# Altium footprint library INFINITY.Diod.PcbLib: 8 footprints
Each footprint in its own frame and in the unit in brackets; x right, y up, seen from the top. Pads: shape width x height; smd on the part's side, far side on the other; paste and mask are expansions set on the pad; w line width, h text height; cw(c..) or ccw(c..) is an arc to the next point about the centre after c.
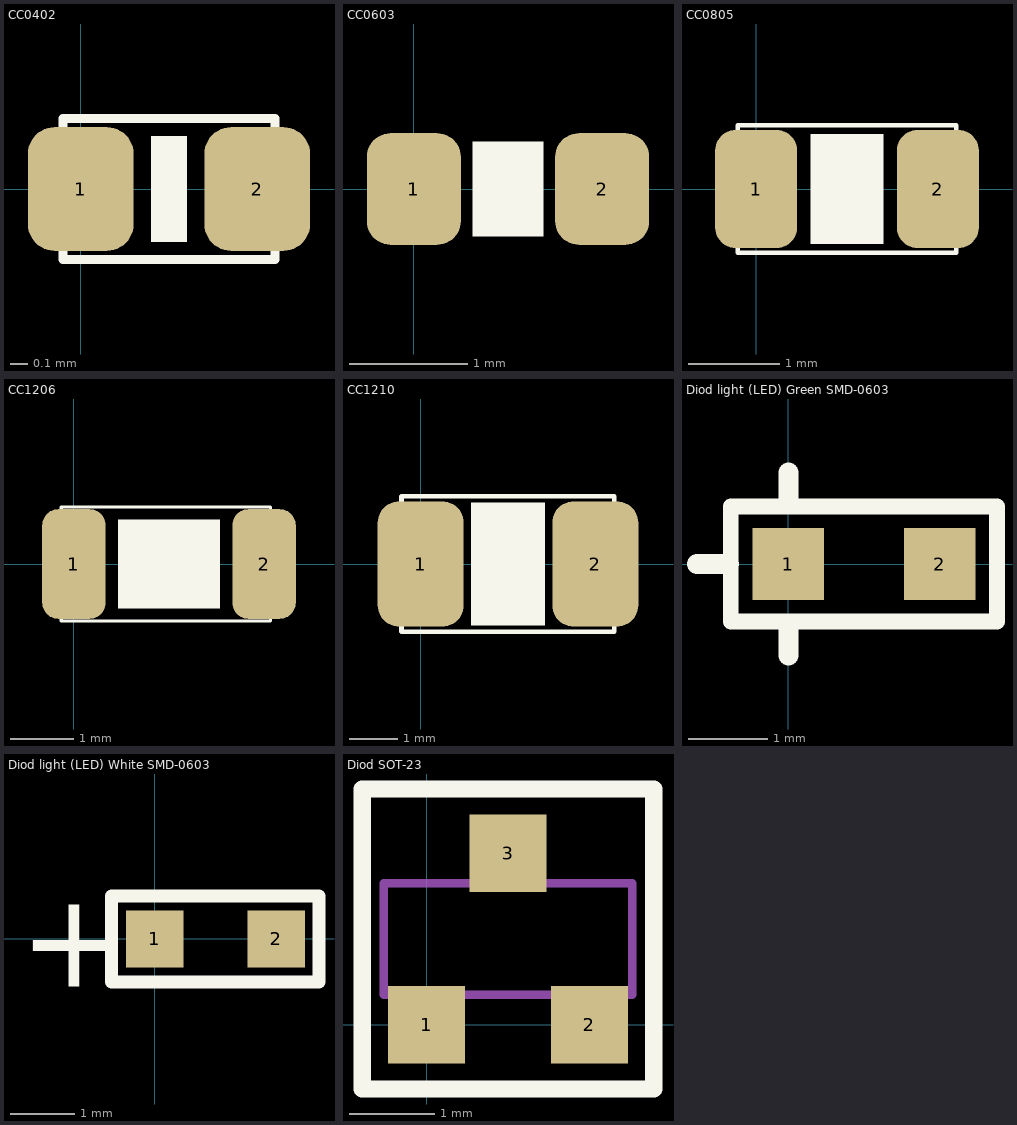
[diagram p0: the footprints below, top view; thin cyan lines are the x and y axes]

## CC0402 [mm]
pads (2):
  rrect50% 0.6x0.7 smd: 1(0,0) 2(1,0)
Top Overlay:
  region: 0.6,-0.3 0.6,0.3 0.4,0.3 0.4,-0.3
  lines w0.05: -0.1,-0.4 -0.1,0.4 1.1,0.4 1.1,-0.4 -0.1,-0.4
3D body "User Library-0402(1005M) Cap.STEP": height 0.51, standoff 0, extent 0,-0.254 1.016,0.254

## CC0603 [mm]
pads (2):
  rrect50% 0.8x0.95 smd: 1(0,0) 2(1.6,0)
Top Overlay:
  region: 1.1,-0.4 1.1,0.4 0.5,0.4 0.5,-0.4
3D body "User Library-0603(1608M) Cap.STEP": height 0.79, standoff 0, extent -0.187,-0.394 1.813,0.394

## CC0805 [mm]
pads (2):
  rrect50% 0.9x1.3 smd: 1(0,0) 2(2,0)
Top Overlay:
  region: 1.4,-0.6 1.4,0.6 0.6,0.6 0.6,-0.6
  lines w0.05: -0.2,-0.7 2.2,-0.7 2.2,0.7 -0.2,0.7 -0.2,-0.7
3D body "User Library-0805(2012M) Cap.STEP": height 0.79, standoff 0, extent -0.263,-0.622 2.245,0.622

## CC1206 [mm]
pads (2):
  rrect50% 1x1.73 smd: 1(0,0) 2(3,0)
Top Overlay:
  region: 2.3,-0.7 2.3,0.7 0.7,0.7 0.7,-0.7
  lines w0.05: -0.2,-0.9 -0.2,0.9 3.1,0.9 3.1,-0.9 -0.2,-0.9
3D body "User Library-1206(3216M) Cap.STEP": height 1.53, standoff 0, extent -0.502,-0.8 3.499,0.8

## CC1210 [mil]
pads (2):
  rrect50% 70x102 smd: 1(0,0) 2(142,0)
Top Overlay:
  region: 101,-50 101,50 41,50 41,-50
  lines w3.94: -15.75,-55.12 -15.75,55.12 157.48,55.12 157.48,-55.12 -15.75,-55.12
3D body "User Library-1210(3225M) Cap.STEP": height 67.1, standoff 0, extent -7.74,-48.99 149.76,49.01

## Diod light (LED) Green SMD-0603 [mm]
pads (2):
  rect 0.9x0.9 smd: 1(0,0) 2(1.902,0)
Top Overlay:
  lines w0.2: -0.725,-0.725 -0.725,0.725 2.625,0.725 2.625,-0.725 -0.725,-0.725
  lines w0.254: -1.15,0 -0.75,0 ; 0,-1.15 0,-0.75 ; 0,0.75 0,1.15
3D body "SW3dPS-LED SMD0603.STEP": height 0.68, standoff 0, extent 0.125,-0.35 1.775,0.375

## Diod light (LED) White SMD-0603 [mm]
pads (2):
  rect 0.9x0.9 smd: 1(0,0) 2(1.902,0)
Top Overlay:
  lines w0.2: -0.675,-0.675 2.575,-0.675 2.575,0.675 -0.675,0.675 -0.675,-0.675
  text "+" at -2.125,-0.75 h1.5
3D body "SW3dPS-LED SMD0603.STEP": height 0.68, standoff 0, extent 0.125,-0.35 1.775,0.375

## Diod SOT-23 [mm]
height 1
pads (3):
  rect 0.9x0.9 smd: 1(0,0) 2(1.9,0) 3(0.95,2)
Top Overlay:
  lines w0.2: -0.75,-0.75 -0.75,2.75 2.65,2.75 2.65,-0.75 -0.75,-0.75
  text "." at 0.025,-0.9 h0.5
Mechanical 1:
  lines w0.1: -0.5,0.35 2.4,0.35 2.4,1.65 -0.5,1.65 -0.5,0.35
3D body "SOT23-3.step": height 1.3, standoff 0, extent -0.45,-0.4 2.45,2.4